# EAGLE library part R-RJ45R10P-B000 (library R-RJ45R10P-B000)
RJ45 Connector Source: Datasheet <https://datasheet.lcsc.com/szlcsc/1905231215_Shenzhen-Cankemeng-R-RJ45R10P-B000_C386758.pdf>
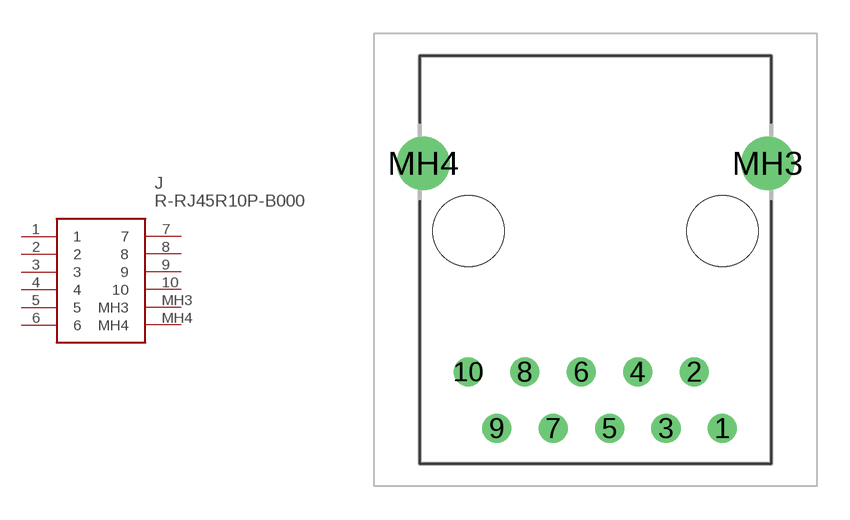
[diagram p0: symbol with the pads of RRJ45R10PB000; footprint RRJ45R10PB000]

Designator prefix J

## R-RJ45R10P-B000 (DESCRIPTION: RJ45 Connector; HEIGHT: 13.35mm; MANUFACTURER_NAME: Ckmtw(Shenzhen Cankemeng); MANUFACTURER_PART_NUMBER: R-RJ45R10P-B000)  [RRJ45R10PB000]
1  1
2  2
3  3
4  4
5  5
6  6
7  7
8  8
9  9
10  10
MH3  MH3
MH4  MH4

## Footprint RRJ45R10PB000 (pad centres in mm)
R-RJ45R10P-B000-3
drill 0.8 pad 1.3: 1 0,0; 2 -1.27,2.54; 3 -2.54,0; 4 -3.81,2.54; 5 -5.08,0; 6 -6.35,2.54; 7 -7.62,0; 8 -8.89,2.54; 9 -10.16,0; 10 -11.43,2.54
drill 1.6 pad 2.4: MH3 2.035,11.94; MH4 -13.465,11.94
hole 3.2 at 0,8.89
hole 3.2 at -11.43,8.89